# Altium schematic symbol library smartwatch.SchLib: 28 symbols
Pins are listed as number, name and electrical type; pins without a type are passive.

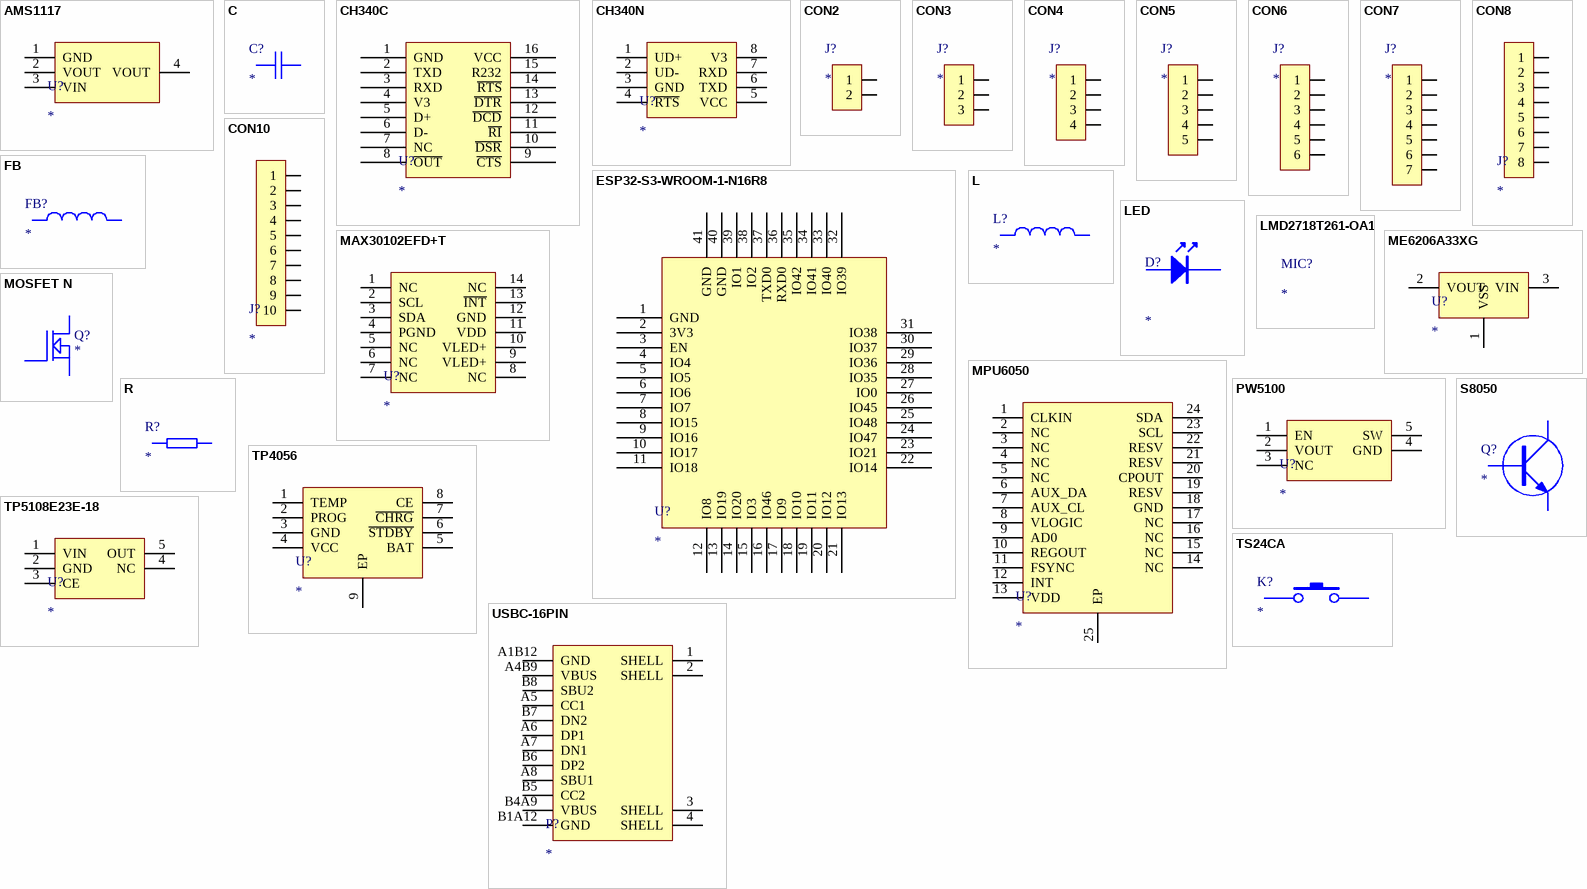
[diagram p0: symbols AMS1117 to USBC-16PIN]

## AMS1117
designator U?
LDO 线性稳压器
footprint SOT223
pins: 1 GND, 2 VOUT, 3 VIN, 4 VOUT

## C
designator C?
电容
pins: 1, 2

## CH340C
designator U?
USB转换芯片
footprint SOP-16_L10.0-W3.9-P1.27-LS6.0-BL
pins: 1 GND, 2 TXD, 3 RXD, 4 V3, 5 D+, 6 D-, 7 NC, 8 ~{OUT}, 9 ~{CTS}, 10 ~{DSR}, 11 ~{RI}, 12 ~{DCD}, 13 ~{DTR}, 14 ~{RTS}, 15 R232, 16 VCC

## CH340N
designator U?
USB2.0芯片CH340N
footprint SOP-8_L4.9-W3.9-P1.27-LS6.0-BL
pins: 1 UD+, 2 UD-, 3 GND, 4 ~{RTS}, 5 VCC, 6 TXD, 7 RXD, 8 V3

## CON2
designator J?
pins: 1, 2

## CON3
designator J?
pins: 1, 2, 3

## CON4
designator J?
pins: 1, 2, 3, 4

## CON5
designator J?
pins: 1, 2, 3, 4, 5

## CON6
designator J?
pins: 1, 2, 3, 4, 5, 6

## CON7
designator J?
pins: 1, 2, 3, 4, 5, 6, 7

## CON8
designator J?
footprint SH1.25-8P-S
pins: 1, 2, 3, 4, 5, 6, 7, 8

## CON10
designator J?
pins: 1, 2, 3, 4, 5, 6, 7, 8, 9, 10

## ESP32-S3-WROOM-1-N16R8
designator U?
通用型Wi-Fi+低功耗蓝牙MCU模组
footprint WIRELM-SMD_ESP32-S3-WROOM-1 (通用型Wi-Fi+低功耗蓝牙MCU模组)
pins: 1 GND, 2 3V3, 3 EN, 4 IO4, 5 IO5, 6 IO6, 7 IO7, 8 IO15, 9 IO16, 10 IO17, 11 IO18, 12 IO8, 13 IO19, 14 IO20, 15 IO3, 16 IO46, 17 IO9, 18 IO10, 19 IO11, 20 IO12, 21 IO13, 22 IO14, 23 IO21, 24 IO47, 25 IO48, 26 IO45, 27 IO0, 28 IO35, 29 IO36, 30 IO37, 31 IO38, 32 IO39, 33 IO40, 34 IO41, 35 IO42, 36 RXD0, 37 TXD0, 38 IO2, 39 IO1, 40 GND, 41 GND

## FB
designator FB?
磁珠
pins: 1, 2

## L
designator L?
电感
pins: 1, 2

## LED
designator D?
LED
pins: 1, 2

## LMD2718T261-OA1
designator MIC?

## MAX30102EFD+T
designator U?
高灵敏度脉搏血氧仪和心率传感器
footprint OESIP-14_L5.6-W3.3-P0.80-TL (高灵敏度脉搏血氧仪和心率传感器)
pins: 1 NC, 2 SCL, 3 SDA, 4 PGND, 5 NC, 6 NC, 7 NC, 8 NC, 9 VLED+, 10 VLED+, 11 VDD, 12 GND, 13 ~{INT}, 14 NC

## ME6206A33XG
designator U?
LDO 输入6V 输出3.3V 300mA
pins: 1 VSS, 2 VOUT, 3 VIN

## MOSFET N
designator Q?
pins: 1 G, 2 S, 3 D

## MPU6050
designator U?
三轴加速度计和三轴陀螺仪，工作电压：2.375V~3.46V
footprint QFN-24_L4.0-W4.0-P0.50-BL-EP2.7
pins: 1 CLKIN, 2 NC, 3 NC, 4 NC, 5 NC, 6 AUX_DA, 7 AUX_CL, 8 VLOGIC, 9 AD0, 10 REGOUT, 11 FSYNC, 12 INT, 13 VDD, 14 NC, 15 NC, 16 NC, 17 NC, 18 GND, 19 RESV, 20 CPOUT, 21 RESV, 22 RESV, 23 SCL, 24 SDA, 25 EP

## PW5100
designator U?
DC-DC
footprint SOT95P280X125-5N (SOT23, 5-Leads, Body 2.92x2.80mm, Pitch 0.95mm, IPC Medium Density)
pins: 1 EN, 2 VOUT, 3 NC, 4 GND, 5 SW

## R
designator R?
电阻
pins: 1, 2

## S8050
designator Q?
三极管
footprint SOT-23-3_L2.9-W1.3-P1.90-LS2.3-BR
pins: 1 B, 2 E, 3 C

## TP4056
designator U?
1A线性锂离子电池充电器
footprint ESOP-8_L4.9-W3.9-P1.27-LS6.0-BL-EP
pins: 1 TEMP, 2 PROG, 3 GND, 4 VCC, 5 BAT, 6 ~{STDBY}, 7 ~{CHRG}, 8 CE, 9 EP

## TP5108E23E-18
designator U?
LDO 输出1.8V 500mA
footprint SOT-23-5_L3.0-W1.7-P0.95-LS2.8-BL
pins: 1 VIN, 2 GND, 3 CE, 4 NC, 5 OUT

## TS24CA
designator K?
4.55*1.8*3.5mm 卧贴 轻触开关
pins: 1, 2

## USBC-16PIN
designator P?
USB Type-C母座 16PIN 卧贴
footprint USB-C-SMD_G-SWITCH_GT-USB-7010ASV
pins: 1 SHELL, 2 SHELL, 3 SHELL, 4 SHELL, A1B12 GND, A4B9 VBUS, A5 CC1, A6 DP1, A7 DN1, A8 SBU1, B1A12 GND, B4A9 VBUS, B5 CC2, B6 DP2, B7 DN2, B8 SBU2